# Altium footprint library IC_QFP.PcbLib: 10 footprints (part 4 of 5)
Each footprint in its own frame and in the unit in brackets; x right, y up, seen from the top. Pads: shape width x height; smd on the part's side, far side on the other; paste and mask are expansions set on the pad; w line width, h text height; cw(c..) or ccw(c..) is an arc to the next point about the centre after c.
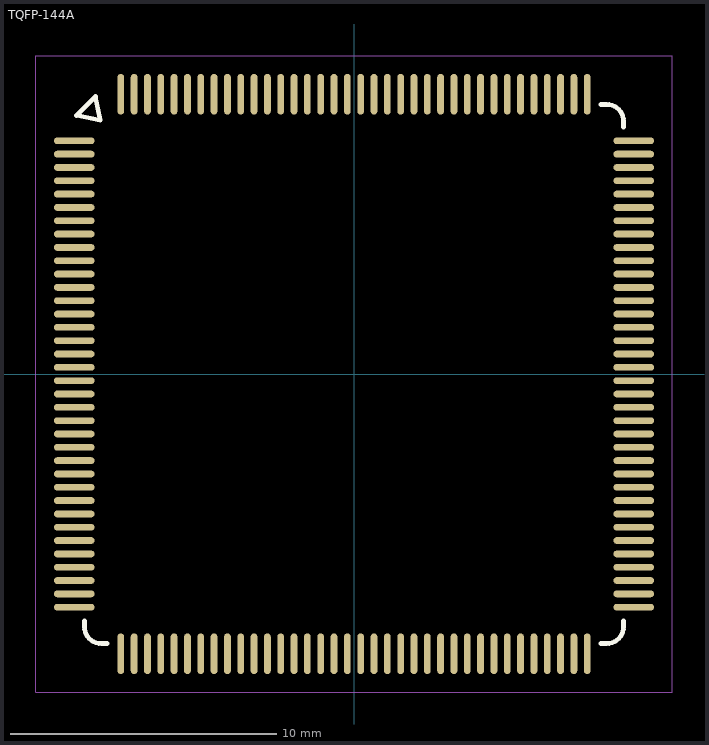
[diagram p3: the footprint, top view; thin cyan lines are the x and y axes]

## TQFP-144A [mil]
pads (144):
  oval 60x10 smd: 1(-413.27,344.49) 2(-413.27,324.8) 3(-413.27,305.12) 4(-413.27,285.43) 5(-413.27,265.75) 6(-413.27,246.06) 7(-413.27,226.38) 8(-413.27,206.69) 9(-413.27,187.01) 10(-413.27,167.32) 11(-413.27,147.64) 12(-413.27,127.95) 13(-413.27,108.27) 14(-413.27,88.58) 15(-413.27,68.9) 16(-413.27,49.21) 17(-413.27,29.53) 18(-413.27,9.84) 19(-413.27,-9.84) 20(-413.27,-29.53) 21(-413.27,-49.21) 22(-413.27,-68.9) 23(-413.27,-88.58) 24(-413.27,-108.27) 25(-413.27,-127.95) 26(-413.27,-147.64) 27(-413.27,-167.32) 28(-413.27,-187.01) 29(-413.27,-206.69) 30(-413.27,-226.38) 31(-413.27,-246.06) 32(-413.27,-265.75) 33(-413.27,-285.43) 34(-413.27,-305.12) 35(-413.27,-324.8) 36(-413.27,-344.49) 73(413.27,-344.49) 74(413.27,-324.8) 75(413.27,-305.12) 76(413.27,-285.43) 77(413.27,-265.75) 78(413.27,-246.06) 79(413.27,-226.38) 80(413.27,-206.69) 81(413.27,-187.01) 82(413.27,-167.32) 83(413.27,-147.64) 84(413.27,-127.95) 85(413.27,-108.27) 86(413.27,-88.58) 87(413.27,-68.9) 88(413.27,-49.21) 89(413.27,-29.53) 90(413.27,-9.84) 91(413.27,9.84) 92(413.27,29.53) 93(413.27,49.21) 94(413.27,68.9) 95(413.27,88.58) 96(413.27,108.27) 97(413.27,127.95) 98(413.27,147.64) 99(413.27,167.32) 100(413.27,187.01) 101(413.27,206.69) 102(413.27,226.38) 103(413.27,246.06) 104(413.27,265.75) 105(413.27,285.43) 106(413.27,305.12) 107(413.27,324.8) 108(413.27,344.49)
  oval 10x60 smd: 37(-344.49,-413.27) 38(-324.8,-413.27) 39(-305.12,-413.27) 40(-285.43,-413.27) 41(-265.75,-413.27) 42(-246.06,-413.27) 43(-226.38,-413.27) 44(-206.69,-413.27) 45(-187.01,-413.27) 46(-167.32,-413.27) 47(-147.64,-413.27) 48(-127.95,-413.27) 49(-108.27,-413.27) 50(-88.58,-413.27) 51(-68.9,-413.27) 52(-49.21,-413.27) 53(-29.53,-413.27) 54(-9.84,-413.27) 55(9.84,-413.27) 56(29.53,-413.27) 57(49.21,-413.27) 58(68.9,-413.27) 59(88.58,-413.27) 60(108.27,-413.27) 61(127.95,-413.27) 62(147.64,-413.27) 63(167.32,-413.27) 64(187.01,-413.27) 65(206.69,-413.27) 66(226.38,-413.27) 67(246.06,-413.27) 68(265.75,-413.27) 69(285.43,-413.27) 70(305.12,-413.27) 71(324.8,-413.27) 72(344.49,-413.27) 109(344.49,413.27) 110(324.8,413.27) 111(305.12,413.27) 112(285.43,413.27) 113(265.75,413.27) 114(246.06,413.27) 115(226.38,413.27) 116(206.69,413.27) 117(187.01,413.27) 118(167.32,413.27) 119(147.64,413.27) 120(127.95,413.27) 121(108.27,413.27) 122(88.58,413.27) 123(68.9,413.27) 124(49.21,413.27) 125(29.53,413.27) 126(9.84,413.27) 127(-9.84,413.27) 128(-29.53,413.27) 129(-49.21,413.27) 130(-68.9,413.27) 131(-88.58,413.27) 132(-108.27,413.27) 133(-127.95,413.27) 134(-147.64,413.27) 135(-167.32,413.27) 136(-187.01,413.27) 137(-206.69,413.27) 138(-226.38,413.27) 139(-246.06,413.27) 140(-265.75,413.27) 141(-285.43,413.27) 142(-305.12,413.27) 143(-324.8,413.27) 144(-344.49,413.27)
Top Overlay:
  lines w7: -398.23,-365 -398.23,-373.23 ccw(c-373.23,-373.23) -373.23,-398.23 -365,-398.23 ; 365,-398.23 373.23,-398.23 ccw(c373.23,-373.23) 398.23,-373.23 398.23,-365 ; 365,398.23 373.23,398.23 cw(c373.23,373.23) 398.23,373.23 398.23,365 ; -409.8,381.96 -375,375 -381.96,409.8 -409.8,381.96
Mechanical 15:
  lines w1: -470,-470 470,-470 470,470 -470,470 -470,-470
3D body: height 45, standoff 0, extent -384.27,-384.27 384.27,384.27
3D body: height 30, standoff 0, extent -403.27,339.49 -393.27,349.49
3D body: height 7, standoff 0, extent -423.27,339.49 -403.27,349.49
3D body: height 30, standoff 23, extent -393.27,339.49 -383.27,349.49
3D body: height 30, standoff 23, extent -393.27,319.8 -383.27,329.8
3D body: height 7, standoff 0, extent -423.27,319.8 -403.27,329.8
3D body: height 30, standoff 0, extent -403.27,319.8 -393.27,329.8
3D body: height 30, standoff 23, extent -393.27,300.12 -383.27,310.12
3D body: height 7, standoff 0, extent -423.27,300.12 -403.27,310.12
3D body: height 30, standoff 0, extent -403.27,300.12 -393.27,310.12
3D body: height 30, standoff 23, extent -393.27,280.43 -383.27,290.43
3D body: height 7, standoff 0, extent -423.27,280.43 -403.27,290.43
3D body: height 30, standoff 0, extent -403.27,280.43 -393.27,290.43
3D body: height 30, standoff 23, extent -393.27,260.75 -383.27,270.75
3D body: height 7, standoff 0, extent -423.27,260.75 -403.27,270.75
3D body: height 30, standoff 0, extent -403.27,260.75 -393.27,270.75
3D body: height 30, standoff 23, extent -393.27,241.06 -383.27,251.06
3D body: height 7, standoff 0, extent -423.27,241.06 -403.27,251.06
3D body: height 30, standoff 0, extent -403.27,241.06 -393.27,251.06
3D body: height 30, standoff 23, extent -393.27,221.38 -383.27,231.38
3D body: height 7, standoff 0, extent -423.27,221.38 -403.27,231.38
3D body: height 30, standoff 0, extent -403.27,221.38 -393.27,231.38
3D body: height 30, standoff 23, extent -393.27,201.69 -383.27,211.69
3D body: height 7, standoff 0, extent -423.27,201.69 -403.27,211.69
3D body: height 30, standoff 0, extent -403.27,201.69 -393.27,211.69
3D body: height 30, standoff 23, extent -393.27,182.01 -383.27,192.01
3D body: height 7, standoff 0, extent -423.27,182.01 -403.27,192.01
3D body: height 30, standoff 0, extent -403.27,182.01 -393.27,192.01
3D body: height 30, standoff 23, extent -393.27,162.32 -383.27,172.32
3D body: height 7, standoff 0, extent -423.27,162.32 -403.27,172.32
3D body: height 30, standoff 0, extent -403.27,162.32 -393.27,172.32
3D body: height 30, standoff 23, extent -393.27,142.64 -383.27,152.64
3D body: height 7, standoff 0, extent -423.27,142.64 -403.27,152.64
3D body: height 30, standoff 0, extent -403.27,142.64 -393.27,152.64
3D body: height 30, standoff 23, extent -393.27,122.95 -383.27,132.95
3D body: height 7, standoff 0, extent -423.27,122.95 -403.27,132.95
3D body: height 30, standoff 0, extent -403.27,122.95 -393.27,132.95
3D body: height 30, standoff 23, extent -393.27,103.27 -383.27,113.27
3D body: height 7, standoff 0, extent -423.27,103.27 -403.27,113.27
3D body: height 30, standoff 0, extent -403.27,103.27 -393.27,113.27
3D body: height 30, standoff 23, extent -393.27,83.58 -383.27,93.58
3D body: height 7, standoff 0, extent -423.27,83.58 -403.27,93.58
3D body: height 30, standoff 0, extent -403.27,83.58 -393.27,93.58
3D body: height 30, standoff 23, extent -393.27,63.9 -383.27,73.9
3D body: height 7, standoff 0, extent -423.27,63.9 -403.27,73.9
3D body: height 30, standoff 0, extent -403.27,63.9 -393.27,73.9
3D body: height 30, standoff 23, extent -393.27,44.21 -383.27,54.21
3D body: height 7, standoff 0, extent -423.27,44.21 -403.27,54.21
3D body: height 30, standoff 0, extent -403.27,44.21 -393.27,54.21
3D body: height 30, standoff 23, extent -393.27,24.53 -383.27,34.53
3D body: height 7, standoff 0, extent -423.27,24.53 -403.27,34.53
3D body: height 30, standoff 0, extent -403.27,24.53 -393.27,34.53
3D body: height 30, standoff 23, extent -393.27,4.84 -383.27,14.84
3D body: height 7, standoff 0, extent -423.27,4.84 -403.27,14.84
3D body: height 30, standoff 0, extent -403.27,4.84 -393.27,14.84
3D body: height 30, standoff 23, extent -393.27,-14.84 -383.27,-4.84
3D body: height 7, standoff 0, extent -423.27,-14.84 -403.27,-4.84
3D body: height 30, standoff 0, extent -403.27,-14.84 -393.27,-4.84
3D body: height 30, standoff 23, extent -393.27,-34.53 -383.27,-24.53
3D body: height 7, standoff 0, extent -423.27,-34.53 -403.27,-24.53
3D body: height 30, standoff 0, extent -403.27,-34.53 -393.27,-24.53
3D body: height 30, standoff 23, extent -393.27,-54.21 -383.27,-44.21
3D body: height 7, standoff 0, extent -423.27,-54.21 -403.27,-44.21
3D body: height 30, standoff 0, extent -403.27,-54.21 -393.27,-44.21
3D body: height 30, standoff 23, extent -393.27,-73.9 -383.27,-63.9
3D body: height 7, standoff 0, extent -423.27,-73.9 -403.27,-63.9
3D body: height 30, standoff 0, extent -403.27,-73.9 -393.27,-63.9
3D body: height 30, standoff 23, extent -393.27,-93.58 -383.27,-83.58
3D body: height 7, standoff 0, extent -423.27,-93.58 -403.27,-83.58
3D body: height 30, standoff 0, extent -403.27,-93.58 -393.27,-83.58
3D body: height 30, standoff 23, extent -393.27,-113.27 -383.27,-103.27
3D body: height 7, standoff 0, extent -423.27,-113.27 -403.27,-103.27
3D body: height 30, standoff 0, extent -403.27,-113.27 -393.27,-103.27
3D body: height 30, standoff 23, extent -393.27,-132.95 -383.27,-122.95
3D body: height 7, standoff 0, extent -423.27,-132.95 -403.27,-122.95
3D body: height 30, standoff 0, extent -403.27,-132.95 -393.27,-122.95
3D body: height 30, standoff 0, extent -349.49,393.27 -339.49,403.27
3D body: height 7, standoff 0, extent -349.49,403.27 -339.49,423.27
3D body: height 30, standoff 23, extent -349.49,383.27 -339.49,393.27
3D body: height 30, standoff 0, extent -329.8,393.27 -319.8,403.27
3D body: height 7, standoff 0, extent -329.8,403.27 -319.8,423.27
3D body: height 30, standoff 23, extent -329.8,383.27 -319.8,393.27
3D body: height 30, standoff 0, extent -310.12,393.27 -300.12,403.27
3D body: height 7, standoff 0, extent -310.12,403.27 -300.12,423.27
3D body: height 30, standoff 23, extent -310.12,383.27 -300.12,393.27
3D body: height 30, standoff 0, extent -290.43,393.27 -280.43,403.27
3D body: height 7, standoff 0, extent -290.43,403.27 -280.43,423.27
3D body: height 30, standoff 23, extent -290.43,383.27 -280.43,393.27
3D body: height 30, standoff 0, extent -270.75,393.27 -260.75,403.27
3D body: height 7, standoff 0, extent -270.75,403.27 -260.75,423.27
3D body: height 30, standoff 23, extent -270.75,383.27 -260.75,393.27
3D body: height 30, standoff 0, extent -251.06,393.27 -241.06,403.27
3D body: height 7, standoff 0, extent -251.06,403.27 -241.06,423.27
3D body: height 30, standoff 23, extent -251.06,383.27 -241.06,393.27
3D body: height 30, standoff 0, extent -231.38,393.27 -221.38,403.27
3D body: height 7, standoff 0, extent -231.38,403.27 -221.38,423.27
3D body: height 30, standoff 23, extent -231.38,383.27 -221.38,393.27
3D body: height 30, standoff 0, extent -211.69,393.27 -201.69,403.27
3D body: height 7, standoff 0, extent -211.69,403.27 -201.69,423.27
3D body: height 30, standoff 23, extent -211.69,383.27 -201.69,393.27
3D body: height 30, standoff 0, extent -192.01,393.27 -182.01,403.27
3D body: height 7, standoff 0, extent -192.01,403.27 -182.01,423.27
3D body: height 30, standoff 23, extent -192.01,383.27 -182.01,393.27
3D body: height 30, standoff 0, extent -172.32,393.27 -162.32,403.27
3D body: height 7, standoff 0, extent -172.32,403.27 -162.32,423.27
3D body: height 30, standoff 23, extent -172.32,383.27 -162.32,393.27
3D body: height 30, standoff 0, extent -152.64,393.27 -142.64,403.27
3D body: height 7, standoff 0, extent -152.64,403.27 -142.64,423.27
3D body: height 30, standoff 23, extent -152.64,383.27 -142.64,393.27
3D body: height 30, standoff 0, extent -132.95,393.27 -122.95,403.27
3D body: height 7, standoff 0, extent -132.95,403.27 -122.95,423.27
3D body: height 30, standoff 23, extent -132.95,383.27 -122.95,393.27
3D body: height 30, standoff 0, extent -113.27,393.27 -103.27,403.27
3D body: height 7, standoff 0, extent -113.27,403.27 -103.27,423.27
3D body: height 30, standoff 23, extent -113.27,383.27 -103.27,393.27
3D body: height 30, standoff 0, extent -93.58,393.27 -83.58,403.27
3D body: height 7, standoff 0, extent -93.58,403.27 -83.58,423.27
3D body: height 30, standoff 23, extent -93.58,383.27 -83.58,393.27
3D body: height 30, standoff 0, extent -73.9,393.27 -63.9,403.27
3D body: height 7, standoff 0, extent -73.9,403.27 -63.9,423.27
3D body: height 30, standoff 23, extent -73.9,383.27 -63.9,393.27
3D body: height 30, standoff 0, extent -54.21,393.27 -44.21,403.27
3D body: height 7, standoff 0, extent -54.21,403.27 -44.21,423.27
3D body: height 30, standoff 23, extent -54.21,383.27 -44.21,393.27
3D body: height 30, standoff 0, extent -34.53,393.27 -24.53,403.27
3D body: height 7, standoff 0, extent -34.53,403.27 -24.53,423.27
3D body: height 30, standoff 23, extent -34.53,383.27 -24.53,393.27
3D body: height 30, standoff 0, extent -14.84,393.27 -4.84,403.27
3D body: height 7, standoff 0, extent -14.84,403.27 -4.84,423.27
3D body: height 30, standoff 23, extent -14.84,383.27 -4.84,393.27
3D body: height 30, standoff 0, extent 4.84,393.27 14.84,403.27
3D body: height 7, standoff 0, extent 4.84,403.27 14.84,423.27
3D body: height 30, standoff 23, extent 4.84,383.27 14.84,393.27
3D body: height 30, standoff 0, extent 24.53,393.27 34.53,403.27
3D body: height 7, standoff 0, extent 24.53,403.27 34.53,423.27
3D body: height 30, standoff 23, extent 24.53,383.27 34.53,393.27
3D body: height 30, standoff 0, extent 44.21,393.27 54.21,403.27
3D body: height 7, standoff 0, extent 44.21,403.27 54.21,423.27
3D body: height 30, standoff 23, extent 44.21,383.27 54.21,393.27
3D body: height 30, standoff 0, extent 63.9,393.27 73.9,403.27
3D body: height 7, standoff 0, extent 63.9,403.27 73.9,423.27
3D body: height 30, standoff 23, extent 63.9,383.27 73.9,393.27
3D body: height 30, standoff 0, extent 83.58,393.27 93.58,403.27
3D body: height 7, standoff 0, extent 83.58,403.27 93.58,423.27
3D body: height 30, standoff 23, extent 83.58,383.27 93.58,393.27
3D body: height 30, standoff 0, extent 103.27,393.27 113.27,403.27
3D body: height 7, standoff 0, extent 103.27,403.27 113.27,423.27
3D body: height 30, standoff 23, extent 103.27,383.27 113.27,393.27
3D body: height 30, standoff 23, extent 122.95,383.27 132.95,393.27
3D body: height 7, standoff 0, extent 122.95,403.27 132.95,423.27
3D body: height 30, standoff 0, extent 122.95,393.27 132.95,403.27
3D body: height 45.5, standoff 45, extent -332.27,306.27 -306.27,332.27
3D body: height 30, standoff 0, extent 339.49,393.27 349.49,403.27
3D body: height 7, standoff 0, extent 339.49,403.27 349.49,423.27
3D body: height 30, standoff 23, extent 339.49,383.27 349.49,393.27
3D body: height 30, standoff 23, extent 319.8,383.27 329.8,393.27
3D body: height 7, standoff 0, extent 319.8,403.27 329.8,423.27
3D body: height 30, standoff 0, extent 319.8,393.27 329.8,403.27
3D body: height 30, standoff 23, extent 300.12,383.27 310.12,393.27
3D body: height 7, standoff 0, extent 300.12,403.27 310.12,423.27
3D body: height 30, standoff 0, extent 300.12,393.27 310.12,403.27
3D body: height 30, standoff 23, extent 280.43,383.27 290.43,393.27
3D body: height 7, standoff 0, extent 280.43,403.27 290.43,423.27
3D body: height 30, standoff 0, extent 280.43,393.27 290.43,403.27
3D body: height 30, standoff 23, extent 260.75,383.27 270.75,393.27
3D body: height 7, standoff 0, extent 260.75,403.27 270.75,423.27
3D body: height 30, standoff 0, extent 260.75,393.27 270.75,403.27
3D body: height 30, standoff 23, extent 241.06,383.27 251.06,393.27
3D body: height 7, standoff 0, extent 241.06,403.27 251.06,423.27
3D body: height 30, standoff 0, extent 241.06,393.27 251.06,403.27
3D body: height 30, standoff 23, extent 221.38,383.27 231.38,393.27
3D body: height 7, standoff 0, extent 221.38,403.27 231.38,423.27
3D body: height 30, standoff 0, extent 221.38,393.27 231.38,403.27
3D body: height 30, standoff 23, extent 201.69,383.27 211.69,393.27
3D body: height 7, standoff 0, extent 201.69,403.27 211.69,423.27
3D body: height 30, standoff 0, extent 201.69,393.27 211.69,403.27
3D body: height 30, standoff 23, extent 182.01,383.27 192.01,393.27
3D body: height 7, standoff 0, extent 182.01,403.27 192.01,423.27
3D body: height 30, standoff 0, extent 182.01,393.27 192.01,403.27
3D body: height 30, standoff 23, extent 162.32,383.27 172.32,393.27
3D body: height 7, standoff 0, extent 162.32,403.27 172.32,423.27
3D body: height 30, standoff 0, extent 162.32,393.27 172.32,403.27
3D body: height 30, standoff 23, extent 142.64,383.27 152.64,393.27
3D body: height 7, standoff 0, extent 142.64,403.27 152.64,423.27
3D body: height 30, standoff 0, extent 142.64,393.27 152.64,403.27
3D body: height 30, standoff 0, extent -403.27,-152.64 -393.27,-142.64
3D body: height 7, standoff 0, extent -423.27,-152.64 -403.27,-142.64
3D body: height 30, standoff 23, extent -393.27,-152.64 -383.27,-142.64
3D body: height 30, standoff 23, extent -393.27,-172.32 -383.27,-162.32
3D body: height 7, standoff 0, extent -423.27,-172.32 -403.27,-162.32
3D body: height 30, standoff 0, extent -403.27,-172.32 -393.27,-162.32
3D body: height 30, standoff 23, extent -393.27,-192.01 -383.27,-182.01
3D body: height 7, standoff 0, extent -423.27,-192.01 -403.27,-182.01
3D body: height 30, standoff 0, extent -403.27,-192.01 -393.27,-182.01
3D body: height 30, standoff 23, extent -393.27,-211.69 -383.27,-201.69
3D body: height 7, standoff 0, extent -423.27,-211.69 -403.27,-201.69
3D body: height 30, standoff 0, extent -403.27,-211.69 -393.27,-201.69
3D body: height 30, standoff 23, extent -393.27,-231.38 -383.27,-221.38
3D body: height 7, standoff 0, extent -423.27,-231.38 -403.27,-221.38
3D body: height 30, standoff 0, extent -403.27,-231.38 -393.27,-221.38
3D body: height 30, standoff 23, extent -393.27,-251.06 -383.27,-241.06
3D body: height 7, standoff 0, extent -423.27,-251.06 -403.27,-241.06
3D body: height 30, standoff 0, extent -403.27,-251.06 -393.27,-241.06
3D body: height 30, standoff 23, extent -393.27,-270.75 -383.27,-260.75
3D body: height 7, standoff 0, extent -423.27,-270.75 -403.27,-260.75
3D body: height 30, standoff 0, extent -403.27,-270.75 -393.27,-260.75
3D body: height 30, standoff 23, extent -393.27,-290.43 -383.27,-280.43
3D body: height 7, standoff 0, extent -423.27,-290.43 -403.27,-280.43
3D body: height 30, standoff 0, extent -403.27,-290.43 -393.27,-280.43
3D body: height 30, standoff 23, extent -393.27,-310.12 -383.27,-300.12
3D body: height 7, standoff 0, extent -423.27,-310.12 -403.27,-300.12
3D body: height 30, standoff 0, extent -403.27,-310.12 -393.27,-300.12
3D body: height 30, standoff 23, extent -393.27,-329.8 -383.27,-319.8
3D body: height 7, standoff 0, extent -423.27,-329.8 -403.27,-319.8
3D body: height 30, standoff 0, extent -403.27,-329.8 -393.27,-319.8
3D body: height 30, standoff 23, extent -393.27,-349.49 -383.27,-339.49
3D body: height 7, standoff 0, extent -423.27,-349.49 -403.27,-339.49
3D body: height 30, standoff 0, extent -403.27,-349.49 -393.27,-339.49
3D body: height 30, standoff 0, extent 339.49,-403.27 349.49,-393.27
3D body: height 7, standoff 0, extent 339.49,-423.27 349.49,-403.27
3D body: height 30, standoff 23, extent 339.49,-393.27 349.49,-383.27
3D body: height 30, standoff 0, extent 319.8,-403.27 329.8,-393.27
3D body: height 7, standoff 0, extent 319.8,-423.27 329.8,-403.27
3D body: height 30, standoff 23, extent 319.8,-393.27 329.8,-383.27
3D body: height 30, standoff 0, extent 300.12,-403.27 310.12,-393.27
3D body: height 7, standoff 0, extent 300.12,-423.27 310.12,-403.27
3D body: height 30, standoff 23, extent 300.12,-393.27 310.12,-383.27
3D body: height 30, standoff 0, extent 280.43,-403.27 290.43,-393.27
3D body: height 7, standoff 0, extent 280.43,-423.27 290.43,-403.27
3D body: height 30, standoff 23, extent 280.43,-393.27 290.43,-383.27
3D body: height 30, standoff 0, extent 260.75,-403.27 270.75,-393.27
3D body: height 7, standoff 0, extent 260.75,-423.27 270.75,-403.27
3D body: height 30, standoff 23, extent 260.75,-393.27 270.75,-383.27
3D body: height 30, standoff 0, extent 241.06,-403.27 251.06,-393.27
3D body: height 7, standoff 0, extent 241.06,-423.27 251.06,-403.27
3D body: height 30, standoff 23, extent 241.06,-393.27 251.06,-383.27
3D body: height 30, standoff 0, extent 221.38,-403.27 231.38,-393.27
3D body: height 7, standoff 0, extent 221.38,-423.27 231.38,-403.27
3D body: height 30, standoff 23, extent 221.38,-393.27 231.38,-383.27
3D body: height 30, standoff 0, extent 201.69,-403.27 211.69,-393.27
3D body: height 7, standoff 0, extent 201.69,-423.27 211.69,-403.27
3D body: height 30, standoff 23, extent 201.69,-393.27 211.69,-383.27
3D body: height 30, standoff 0, extent 182.01,-403.27 192.01,-393.27
3D body: height 7, standoff 0, extent 182.01,-423.27 192.01,-403.27
3D body: height 30, standoff 23, extent 182.01,-393.27 192.01,-383.27
3D body: height 30, standoff 0, extent 162.32,-403.27 172.32,-393.27
3D body: height 7, standoff 0, extent 162.32,-423.27 172.32,-403.27
3D body: height 30, standoff 23, extent 162.32,-393.27 172.32,-383.27
3D body: height 30, standoff 23, extent 142.64,-393.27 152.64,-383.27
3D body: height 7, standoff 0, extent 142.64,-423.27 152.64,-403.27
3D body: height 30, standoff 0, extent 142.64,-403.27 152.64,-393.27
3D body: height 30, standoff 0, extent 122.95,-403.27 132.95,-393.27
3D body: height 7, standoff 0, extent 122.95,-423.27 132.95,-403.27
3D body: height 30, standoff 23, extent 122.95,-393.27 132.95,-383.27
3D body: height 30, standoff 0, extent 103.27,-403.27 113.27,-393.27
3D body: height 7, standoff 0, extent 103.27,-423.27 113.27,-403.27
3D body: height 30, standoff 23, extent 103.27,-393.27 113.27,-383.27
3D body: height 30, standoff 0, extent 83.58,-403.27 93.58,-393.27
3D body: height 7, standoff 0, extent 83.58,-423.27 93.58,-403.27
3D body: height 30, standoff 23, extent 83.58,-393.27 93.58,-383.27
3D body: height 30, standoff 0, extent 63.9,-403.27 73.9,-393.27
3D body: height 7, standoff 0, extent 63.9,-423.27 73.9,-403.27
3D body: height 30, standoff 23, extent 63.9,-393.27 73.9,-383.27
3D body: height 30, standoff 0, extent 44.21,-403.27 54.21,-393.27
3D body: height 7, standoff 0, extent 44.21,-423.27 54.21,-403.27
3D body: height 30, standoff 23, extent 44.21,-393.27 54.21,-383.27
3D body: height 30, standoff 0, extent 24.53,-403.27 34.53,-393.27
3D body: height 7, standoff 0, extent 24.53,-423.27 34.53,-403.27
3D body: height 30, standoff 23, extent 24.53,-393.27 34.53,-383.27
3D body: height 30, standoff 0, extent 4.84,-403.27 14.84,-393.27
3D body: height 7, standoff 0, extent 4.84,-423.27 14.84,-403.27
3D body: height 30, standoff 23, extent 4.84,-393.27 14.84,-383.27
3D body: height 30, standoff 0, extent -14.84,-403.27 -4.84,-393.27
3D body: height 7, standoff 0, extent -14.84,-423.27 -4.84,-403.27
3D body: height 30, standoff 23, extent -14.84,-393.27 -4.84,-383.27
3D body: height 30, standoff 0, extent -34.53,-403.27 -24.53,-393.27
3D body: height 7, standoff 0, extent -34.53,-423.27 -24.53,-403.27
3D body: height 30, standoff 23, extent -34.53,-393.27 -24.53,-383.27
3D body: height 30, standoff 0, extent -54.21,-403.27 -44.21,-393.27
3D body: height 7, standoff 0, extent -54.21,-423.27 -44.21,-403.27
3D body: height 30, standoff 23, extent -54.21,-393.27 -44.21,-383.27
3D body: height 30, standoff 0, extent -73.9,-403.27 -63.9,-393.27
3D body: height 7, standoff 0, extent -73.9,-423.27 -63.9,-403.27
3D body: height 30, standoff 23, extent -73.9,-393.27 -63.9,-383.27
3D body: height 30, standoff 0, extent -93.58,-403.27 -83.58,-393.27
3D body: height 7, standoff 0, extent -93.58,-423.27 -83.58,-403.27
3D body: height 30, standoff 23, extent -93.58,-393.27 -83.58,-383.27
3D body: height 30, standoff 0, extent -113.27,-403.27 -103.27,-393.27
3D body: height 7, standoff 0, extent -113.27,-423.27 -103.27,-403.27
3D body: height 30, standoff 23, extent -113.27,-393.27 -103.27,-383.27
3D body: height 30, standoff 0, extent -132.95,-403.27 -122.95,-393.27
3D body: height 7, standoff 0, extent -132.95,-423.27 -122.95,-403.27
3D body: height 30, standoff 23, extent -132.95,-393.27 -122.95,-383.27
3D body: height 30, standoff 0, extent -152.64,-403.27 -142.64,-393.27
3D body: height 7, standoff 0, extent -152.64,-423.27 -142.64,-403.27
3D body: height 30, standoff 23, extent -152.64,-393.27 -142.64,-383.27
3D body: height 30, standoff 0, extent -172.32,-403.27 -162.32,-393.27
3D body: height 7, standoff 0, extent -172.32,-423.27 -162.32,-403.27
3D body: height 30, standoff 23, extent -172.32,-393.27 -162.32,-383.27
3D body: height 30, standoff 0, extent -192.01,-403.27 -182.01,-393.27
3D body: height 7, standoff 0, extent -192.01,-423.27 -182.01,-403.27
3D body: height 30, standoff 23, extent -192.01,-393.27 -182.01,-383.27
3D body: height 30, standoff 0, extent -211.69,-403.27 -201.69,-393.27
3D body: height 7, standoff 0, extent -211.69,-423.27 -201.69,-403.27
3D body: height 30, standoff 23, extent -211.69,-393.27 -201.69,-383.27
3D body: height 30, standoff 0, extent -231.38,-403.27 -221.38,-393.27
3D body: height 7, standoff 0, extent -231.38,-423.27 -221.38,-403.27
3D body: height 30, standoff 23, extent -231.38,-393.27 -221.38,-383.27
3D body: height 30, standoff 0, extent -251.06,-403.27 -241.06,-393.27
3D body: height 7, standoff 0, extent -251.06,-423.27 -241.06,-403.27
3D body: height 30, standoff 23, extent -251.06,-393.27 -241.06,-383.27
3D body: height 30, standoff 0, extent -270.75,-403.27 -260.75,-393.27
3D body: height 7, standoff 0, extent -270.75,-423.27 -260.75,-403.27
3D body: height 30, standoff 23, extent -270.75,-393.27 -260.75,-383.27
3D body: height 30, standoff 0, extent -290.43,-403.27 -280.43,-393.27
3D body: height 7, standoff 0, extent -290.43,-423.27 -280.43,-403.27
3D body: height 30, standoff 23, extent -290.43,-393.27 -280.43,-383.27
3D body: height 30, standoff 0, extent -310.12,-403.27 -300.12,-393.27
3D body: height 7, standoff 0, extent -310.12,-423.27 -300.12,-403.27
3D body: height 30, standoff 23, extent -310.12,-393.27 -300.12,-383.27
3D body: height 30, standoff 0, extent -329.8,-403.27 -319.8,-393.27
3D body: height 7, standoff 0, extent -329.8,-423.27 -319.8,-403.27
3D body: height 30, standoff 23, extent -329.8,-393.27 -319.8,-383.27
3D body: height 30, standoff 23, extent -349.49,-393.27 -339.49,-383.27
3D body: height 7, standoff 0, extent -349.49,-423.27 -339.49,-403.27
3D body: height 30, standoff 0, extent -349.49,-403.27 -339.49,-393.27
3D body: height 30, standoff 0, extent 393.27,339.49 403.27,349.49
3D body: height 7, standoff 0, extent 403.27,339.49 423.27,349.49
3D body: height 30, standoff 23, extent 383.27,339.49 393.27,349.49
3D body: height 30, standoff 0, extent 393.27,319.8 403.27,329.8
3D body: height 7, standoff 0, extent 403.27,319.8 423.27,329.8
3D body: height 30, standoff 23, extent 383.27,319.8 393.27,329.8
3D body: height 30, standoff 0, extent 393.27,300.12 403.27,310.12
3D body: height 7, standoff 0, extent 403.27,300.12 423.27,310.12
3D body: height 30, standoff 23, extent 383.27,300.12 393.27,310.12
3D body: height 30, standoff 0, extent 393.27,280.43 403.27,290.43
3D body: height 7, standoff 0, extent 403.27,280.43 423.27,290.43
3D body: height 30, standoff 23, extent 383.27,280.43 393.27,290.43
3D body: height 30, standoff 0, extent 393.27,260.75 403.27,270.75
3D body: height 7, standoff 0, extent 403.27,260.75 423.27,270.75
3D body: height 30, standoff 23, extent 383.27,260.75 393.27,270.75
3D body: height 30, standoff 0, extent 393.27,241.06 403.27,251.06
3D body: height 7, standoff 0, extent 403.27,241.06 423.27,251.06
3D body: height 30, standoff 23, extent 383.27,241.06 393.27,251.06
3D body: height 30, standoff 0, extent 393.27,221.38 403.27,231.38
3D body: height 7, standoff 0, extent 403.27,221.38 423.27,231.38
3D body: height 30, standoff 23, extent 383.27,221.38 393.27,231.38
3D body: height 30, standoff 0, extent 393.27,201.69 403.27,211.69
3D body: height 7, standoff 0, extent 403.27,201.69 423.27,211.69
3D body: height 30, standoff 23, extent 383.27,201.69 393.27,211.69
3D body: height 30, standoff 0, extent 393.27,182.01 403.27,192.01
3D body: height 7, standoff 0, extent 403.27,182.01 423.27,192.01
3D body: height 30, standoff 23, extent 383.27,182.01 393.27,192.01
3D body: height 30, standoff 0, extent 393.27,162.32 403.27,172.32
3D body: height 7, standoff 0, extent 403.27,162.32 423.27,172.32
3D body: height 30, standoff 23, extent 383.27,162.32 393.27,172.32
3D body: height 30, standoff 23, extent 383.27,142.64 393.27,152.64
3D body: height 7, standoff 0, extent 403.27,142.64 423.27,152.64
3D body: height 30, standoff 0, extent 393.27,142.64 403.27,152.64
3D body: height 30, standoff 0, extent 393.27,122.95 403.27,132.95
3D body: height 7, standoff 0, extent 403.27,122.95 423.27,132.95
3D body: height 30, standoff 23, extent 383.27,122.95 393.27,132.95
3D body: height 30, standoff 0, extent 393.27,103.27 403.27,113.27
3D body: height 7, standoff 0, extent 403.27,103.27 423.27,113.27
3D body: height 30, standoff 23, extent 383.27,103.27 393.27,113.27
3D body: height 30, standoff 0, extent 393.27,83.58 403.27,93.58
3D body: height 7, standoff 0, extent 403.27,83.58 423.27,93.58
3D body: height 30, standoff 23, extent 383.27,83.58 393.27,93.58
3D body: height 30, standoff 0, extent 393.27,63.9 403.27,73.9
3D body: height 7, standoff 0, extent 403.27,63.9 423.27,73.9
3D body: height 30, standoff 23, extent 383.27,63.9 393.27,73.9
3D body: height 30, standoff 0, extent 393.27,44.21 403.27,54.21
3D body: height 7, standoff 0, extent 403.27,44.21 423.27,54.21
3D body: height 30, standoff 23, extent 383.27,44.21 393.27,54.21
3D body: height 30, standoff 0, extent 393.27,24.53 403.27,34.53
3D body: height 7, standoff 0, extent 403.27,24.53 423.27,34.53
3D body: height 30, standoff 23, extent 383.27,24.53 393.27,34.53
3D body: height 30, standoff 0, extent 393.27,4.84 403.27,14.84
3D body: height 7, standoff 0, extent 403.27,4.84 423.27,14.84
3D body: height 30, standoff 23, extent 383.27,4.84 393.27,14.84
3D body: height 30, standoff 0, extent 393.27,-14.84 403.27,-4.84
3D body: height 7, standoff 0, extent 403.27,-14.84 423.27,-4.84
3D body: height 30, standoff 23, extent 383.27,-14.84 393.27,-4.84
3D body: height 30, standoff 0, extent 393.27,-34.53 403.27,-24.53
3D body: height 7, standoff 0, extent 403.27,-34.53 423.27,-24.53
3D body: height 30, standoff 23, extent 383.27,-34.53 393.27,-24.53
3D body: height 30, standoff 0, extent 393.27,-54.21 403.27,-44.21
3D body: height 7, standoff 0, extent 403.27,-54.21 423.27,-44.21
3D body: height 30, standoff 23, extent 383.27,-54.21 393.27,-44.21
3D body: height 30, standoff 0, extent 393.27,-73.9 403.27,-63.9
3D body: height 7, standoff 0, extent 403.27,-73.9 423.27,-63.9
3D body: height 30, standoff 23, extent 383.27,-73.9 393.27,-63.9
3D body: height 30, standoff 0, extent 393.27,-93.58 403.27,-83.58
3D body: height 7, standoff 0, extent 403.27,-93.58 423.27,-83.58
3D body: height 30, standoff 23, extent 383.27,-93.58 393.27,-83.58
3D body: height 30, standoff 0, extent 393.27,-113.27 403.27,-103.27
3D body: height 7, standoff 0, extent 403.27,-113.27 423.27,-103.27
3D body: height 30, standoff 23, extent 383.27,-113.27 393.27,-103.27
3D body: height 30, standoff 0, extent 393.27,-132.95 403.27,-122.95
3D body: height 7, standoff 0, extent 403.27,-132.95 423.27,-122.95
3D body: height 30, standoff 23, extent 383.27,-132.95 393.27,-122.95
3D body: height 30, standoff 0, extent 393.27,-152.64 403.27,-142.64
3D body: height 7, standoff 0, extent 403.27,-152.64 423.27,-142.64
3D body: height 30, standoff 23, extent 383.27,-152.64 393.27,-142.64
3D body: height 30, standoff 0, extent 393.27,-172.32 403.27,-162.32
3D body: height 7, standoff 0, extent 403.27,-172.32 423.27,-162.32
3D body: height 30, standoff 23, extent 383.27,-172.32 393.27,-162.32
3D body: height 30, standoff 0, extent 393.27,-192.01 403.27,-182.01
3D body: height 7, standoff 0, extent 403.27,-192.01 423.27,-182.01
3D body: height 30, standoff 23, extent 383.27,-192.01 393.27,-182.01
3D body: height 30, standoff 0, extent 393.27,-211.69 403.27,-201.69
3D body: height 7, standoff 0, extent 403.27,-211.69 423.27,-201.69
3D body: height 30, standoff 23, extent 383.27,-211.69 393.27,-201.69
3D body: height 30, standoff 0, extent 393.27,-231.38 403.27,-221.38
3D body: height 7, standoff 0, extent 403.27,-231.38 423.27,-221.38
3D body: height 30, standoff 23, extent 383.27,-231.38 393.27,-221.38
3D body: height 30, standoff 0, extent 393.27,-251.06 403.27,-241.06
3D body: height 7, standoff 0, extent 403.27,-251.06 423.27,-241.06
3D body: height 30, standoff 23, extent 383.27,-251.06 393.27,-241.06
3D body: height 30, standoff 0, extent 393.27,-270.75 403.27,-260.75
3D body: height 7, standoff 0, extent 403.27,-270.75 423.27,-260.75
3D body: height 30, standoff 23, extent 383.27,-270.75 393.27,-260.75
3D body: height 30, standoff 0, extent 393.27,-290.43 403.27,-280.43
3D body: height 7, standoff 0, extent 403.27,-290.43 423.27,-280.43
3D body: height 30, standoff 23, extent 383.27,-290.43 393.27,-280.43
3D body: height 30, standoff 0, extent 393.27,-310.12 403.27,-300.12
3D body: height 7, standoff 0, extent 403.27,-310.12 423.27,-300.12
3D body: height 30, standoff 23, extent 383.27,-310.12 393.27,-300.12
3D body: height 30, standoff 0, extent 393.27,-329.8 403.27,-319.8
3D body: height 7, standoff 0, extent 403.27,-329.8 423.27,-319.8
3D body: height 30, standoff 23, extent 383.27,-329.8 393.27,-319.8
3D body: height 30, standoff 23, extent 383.27,-349.49 393.27,-339.49
3D body: height 7, standoff 0, extent 403.27,-349.49 423.27,-339.49
3D body: height 30, standoff 0, extent 393.27,-349.49 403.27,-339.49